# Altium footprint library CN_DIN41612B_902264x824.PcbLib: 1 footprints
Each footprint in its own frame and in the unit in brackets; x right, y up, seen from the top. Pads: shape width x height; smd on the part's side, far side on the other; paste and mask are expansions set on the pad; w line width, h text height; cw(c..) or ccw(c..) is an arc to the next point about the centre after c.
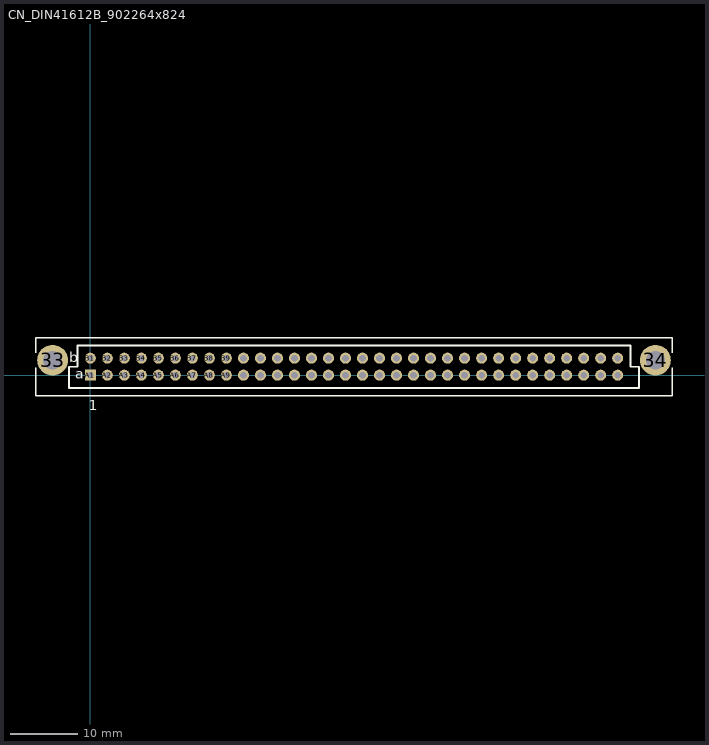
[diagram p0: the footprint, top view; thin cyan lines are the x and y axes]

## CN_DIN41612B_902264x824 [mm] "Connector; DIN 41612, Type B, Thru-Hole; Rows a+b, 64 Position; Vertical"
height 11.6
pads (66):
  round 4.6 hole 2.8: 33(-5.63,2.24) 34(84.37,2.24)
  rect 1.65x1.65 hole 1: A1(0,0)
  round 1.65 hole 1: A2(2.54,0) A3(5.08,0) A4(7.62,0) A5(10.16,0) A6(12.7,0) A7(15.24,0) A8(17.78,0) A9(20.32,0) A10(22.86,0) A11(25.4,0) A12(27.94,0) A13(30.48,0) A14(33.02,0) A15(35.56,0) A16(38.1,0) A17(40.64,0) A18(43.18,0) A19(45.72,0) A20(48.26,0) A21(50.8,0) A22(53.34,0) A23(55.88,0) A24(58.42,0) A25(60.96,0) A26(63.5,0) A27(66.04,0) A28(68.58,0) A29(71.12,0) A30(73.66,0) A31(76.2,0) A32(78.74,0) B1(0,2.54) B2(2.54,2.54) B3(5.08,2.54) B4(7.62,2.54) B5(10.16,2.54) B6(12.7,2.54) B7(15.24,2.54) B8(17.78,2.54) B9(20.32,2.54) B10(22.86,2.54) B11(25.4,2.54) B12(27.94,2.54) B13(30.48,2.54) B14(33.02,2.54) B15(35.56,2.54) B16(38.1,2.54) B17(40.64,2.54) B18(43.18,2.54) B19(45.72,2.54) B20(48.26,2.54) B21(50.8,2.54) B22(53.34,2.54) B23(55.88,2.54) B24(58.42,2.54) B25(60.96,2.54) B26(63.5,2.54) B27(66.04,2.54) B28(68.58,2.54) B29(71.12,2.54) B30(73.66,2.54) B31(76.2,2.54) B32(78.74,2.54)
Top Overlay:
  lines w0.2: -8.13,1.14 -8.13,-3.03 86.87,-3.03 86.87,1.14 ; -8.13,3.34 -8.13,5.57 86.87,5.57 86.87,3.34
  lines w0.254: -3.175,-1.905 81.915,-1.905 81.915,1.27 80.645,1.27 80.645,4.445 -1.905,4.445 -1.905,1.27 -3.175,1.27 -3.175,-1.905
  text "1" at -0.25,-5.21 h1.5
  text "a" at -2.21,-0.5 h1.5
  text "b" at -3.175,1.905 h1.5
3D body: height 11.6, standoff -4.5, extent -8.079,-2.727 86.821,5.273